# Altium schematic symbol library VY1472M63Y5UQ6V0.SchLib: 1 symbol
Pins are listed as number, name and electrical type; pins without a type are passive.

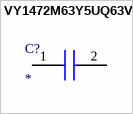
[diagram p0: symbol VY1472M63Y5UQ63V0]

## VY1472M63Y5UQ63V0
designator C?
Capacitor; Manufacturer_Name: VISHAY BC COMPONENTS; Manufacturer_Part_Number: VY1472M63Y5UQ63V0; Description: CAP CER 4700PF 760VAC Y5U RADIAL; Allied_Number: 70122998; Datasheet Link: http://www.vishay.com/docs/28537/vy1series.pdf; Height: 19mm; Allied Price/Stock: https://www.alliedelec.com/bccomponents-vishay-vy1472m63y5uq63v0/70122998/
footprint VY1472M63Y5UQ63V0
pins: 1, 2